# Altium schematic symbol library NetTie_2_to_1.Schlib: 1 symbol
Pins are listed as number, name and electrical type; pins without a type are passive.

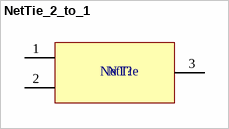
[diagram p0: symbol NetTie_2_to_1]

## NetTie_2_to_1
designator NT?  (value not drawn)  (net tie, no BOM)
pins: 1, 2, 3
text: NetTie